# Altium integrated library Sensorboard.IntLib: 7 symbols
Pins are listed as number, name and electrical type; pins without a type are passive.

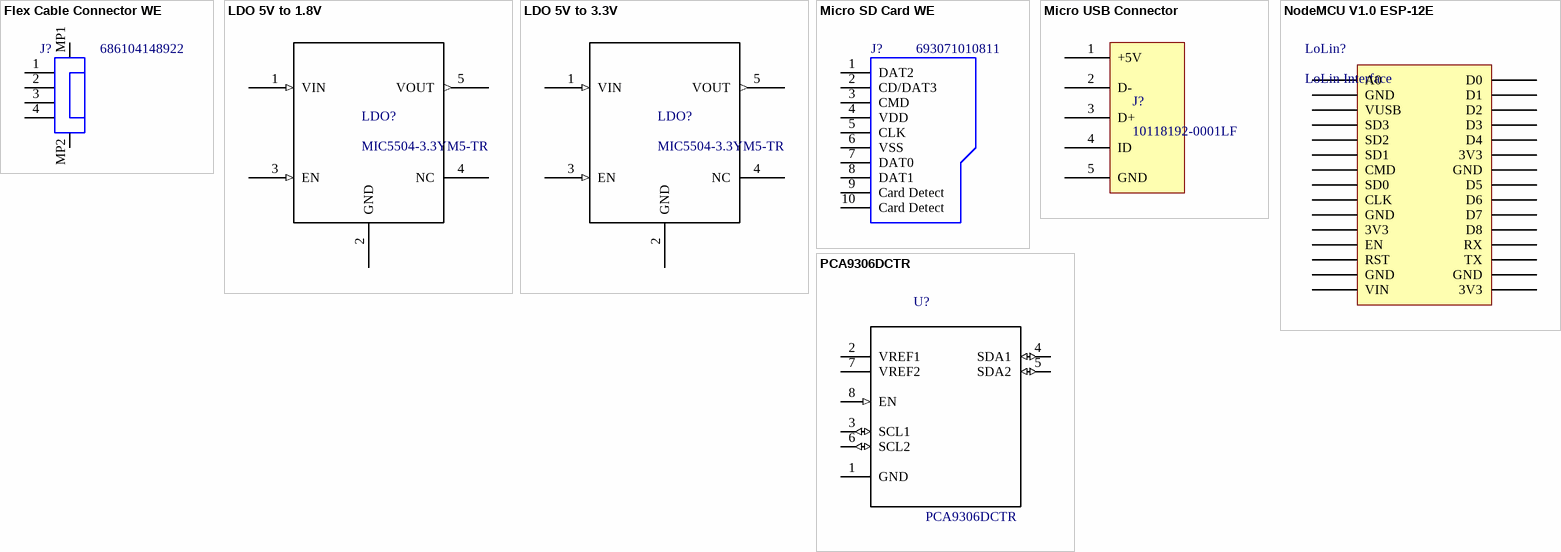
[diagram p0: symbols Flex Cable Connector WE to PCA9306DCTR]

## Flex Cable Connector WE
designator J?, comment 686104148922
WR-FPC SMT ZIF Horizontal Bottom Contact Hinge Type, pitch 1mm, 4p; Contact Resistance: 50mOhm; Pin Number: 4; Working Voltage: 100VAC; Rated Current: 1A; ComponentLink1Description: Manufacturer; ComponentLink1URL: http://www.we-online.de; ComponentLink2Description: Datasheet; ComponentLink2URL: https://katalog.we-online.com/em/datasheet/686104148922.pdf; Packaging: Tape and Reel; Pitch: 1mm; Published Date: November 2019; Mounting Technology: SMT; Operating Temperature: -25 to +85degC; Length: 8.6mm; Part Number: 686104148922; Type: Horizontal; Publisher: Wurth Elektronik
footprint Flex Cable Connector WE 686104148922 (ZIF Connectors, Horizontal, Bottom Contact Hinge Type, pitch 1mm, 4p)
pins: 1, 2, 3, 4, MP1, MP2

## LDO 5V to 1.8V
designator LDO?, comment MIC5504-3.3YM5-TR
Voltage Converter 5V to 1.8V MIC5504-1.8YM5-TR
footprint SOT23-5 (SOT-23-5)
pins: 1 VIN (in), 2 GND (power), 3 EN (in), 4 NC, 5 VOUT (out)

## LDO 5V to 3.3V
designator LDO?, comment MIC5504-3.3YM5-TR
Voltage Converter 5V to 3.3V MIC5504-3.3YM5-TR
footprint SOT23-5 (SOT-23-5)
pins: 1 VIN (in), 2 GND (power), 3 EN (in), 4 NC, 5 VOUT (out)

## Micro SD Card WE
designator J?, comment 693071010811
WR-CRD Micro SD Card Connector Push & Push; Contact Resistance: 100mOhm; Gender: Socket; Pin Number: 8; Working Voltage: 100VAC; Withstanding Voltage: 500VAC; Rated Current: 0.5A; ComponentLink1Description: Manufacturer; ComponentLink1URL: http://www.we-online.de; ComponentLink2Description: Datasheet; ComponentLink2URL: https://katalog.we-online.com/em/datasheet/693071010811.pdf; Packaging: Tape and Reel; Published Date: November 2019; Publisher: Wurth Elektronik; Mounting Technology: SMT; Operating Temperature: -25 to +85degC; Part Number: 693071010811; Type: Push & Push
footprint Micro SD Card WE 693071010811 (Micro SD Card Connector Push & Push - with Card Detection - 8 Pins)
pins: 1 DAT2, 2 CD/DAT3, 3 CMD, 4 VDD, 5 CLK, 6 VSS, 7 DAT0, 8 DAT1, 9 Card Detect, 10 Card Detect

## Micro USB Connector
designator J?, comment 10118192-0001LF
Micro USB Connector 10118192-0001LF; Bestellnummber: 609-4613-1-ND
footprint USB FLach
pins: 1 +5V, 2 D-, 3 D+, 4 ID, 5 GND

## NodeMCU V1.0 ESP-12E
designator LoLin?, comment LoLin Interface
LoLin NodeMCU V3
footprint LoLin NodeMcu V3
pins: 3V3, 3V3, 3V3, A0, CLK, CMD, D0, D1, D2, D3, D4, D5, D6, D7, D8, EN, GND, GND, GND, GND, GND, RST, RX, SD0, SD1, SD2, SD3, TX, VIN, VUSB

## PCA9306DCTR
designator U?
Voltage Level Translator Bidirectional 1 Circuit 2 Channel SM8 _SSOP_; MF: Texas Instruments; Package: LSSOP-8 Texas Instruments; SnapEDA_Link: https://www.snapeda.com/parts/PCA9306DCTR/Texas%20Instruments/view-part/39062/?ref=snap; Availability: Unavailable; MP: PCA9306DCTR; Price: None; Value: *
footprint SOP65P400X130-8N
pins: 1 GND, 2 VREF1 (power), 3 SCL1 (io), 4 SDA1 (io), 5 SDA2 (io), 6 SCL2 (io), 7 VREF2 (power), 8 EN (in)